# Altium footprint library Resistor - Surface Mount - 0201.PcbLib: 1 footprints
Each footprint in its own frame and in the unit in brackets; x right, y up, seen from the top. Pads: shape width x height; smd on the part's side, far side on the other; paste and mask are expansions set on the pad; w line width, h text height; cw(c..) or ccw(c..) is an arc to the next point about the centre after c.
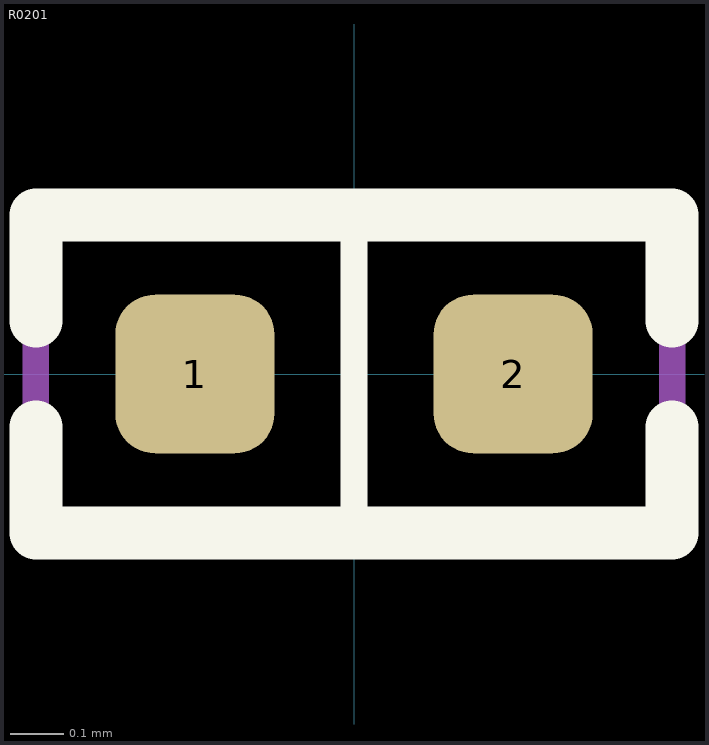
[diagram p0: the footprint, top view; thin cyan lines are the x and y axes]

## R0201 [mm]
pads (2):
  rrect50% 0.3x0.3 smd: 1(-0.3,0) 2(0.3,0)
Top Overlay:
  lines w0.05: 0,-0.3 0,0.3
  lines w0.1: -0.6,-0.1 -0.6,-0.3 0,-0.3 0.6,-0.3 0.6,-0.1 ; -0.6,0.1 -0.6,0.3 0,0.3 0.6,0.3 0.6,0.1
Mechanical 2:
  lines w0.05: -0.6,-0.3 0.6,-0.3 0.6,0.3 -0.6,0.3 -0.6,-0.3
3D body "R0201.STEP": height 0.25, standoff -0.01, extent -0.3,-0.15 0.3,0.15